# Altium schematic symbol library IPM_Sch.SchLib: 1 symbol
Pins are listed as number, name and electrical type; pins without a type are passive.

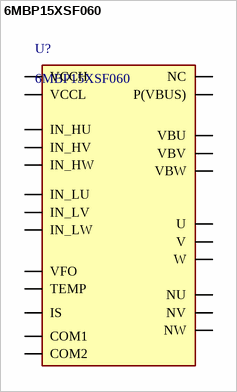
[diagram p0: symbol 6MBP15XSF060]

## 6MBP15XSF060
designator U?
600V 15A IGBT Module; VCE Sat.: 1.6V; Power Dissipation: 32W; ComponentLink1Description: Link; ComponentLink1URL: https://ozdisan.com/guc-yari-iletkenleri/igbtler/modul-ipm-igbtler/6MBP15XSF-060-50/490504; Voltage: 600V; Parameter 2: 15A; Package: 26x43Case
footprint 6MBP15XSF060
pins: 3 VBU, 5 VBV, 7 VBW, 9 IN_HU, 10 IN_HV, 11 IN_HW, 12 VCCH, 13 COM1, 14 IN_LU, 15 IN_LV, 16 IN_LW, 17 VCCL, 18 VFO, 19 IS, 20 COM2, 21 TEMP, 22 NW, 23 NV, 24 NU, 26 W, 28 V, 30 U, 32 P(VBUS), 36 NC